# Altium schematic symbol library 1.3 - CD4000系列芯片.SCHLIB: 170 symbols (part 2 of 2)
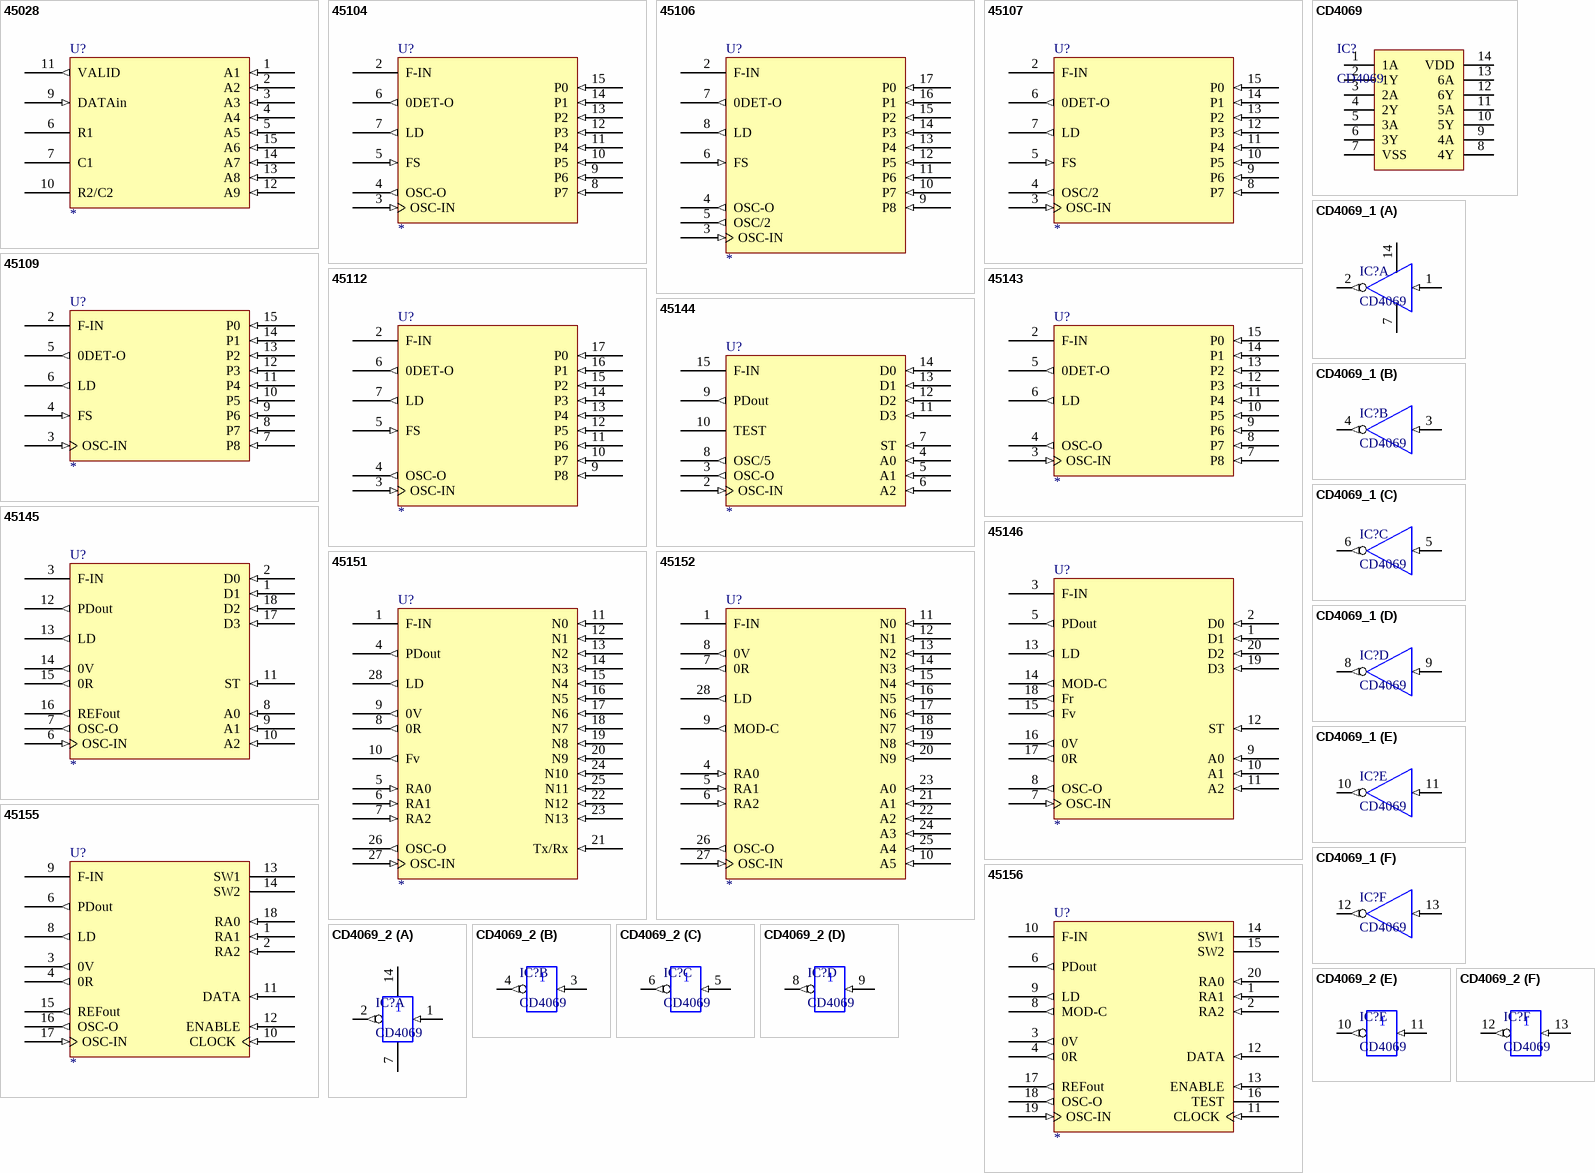
[diagram p8: symbols 45028 to CD4069_2]

## 45109
designator U?
footprint DIP-16
pins: 1 VCC (power) hidden to VCC, 2 F-IN, 3 OSC-IN (in), 4 FS (in), 5 0DET-O (out), 6 LD (out), 7 P8 (in), 8 P7 (in), 9 P6 (in), 10 P5 (in), 11 P4 (in), 12 P3 (in), 13 P2 (in), 14 P1 (in), 15 P0 (in), 16 GND (power) hidden to GND

## 45112
designator U?
footprint DIP-18
pins: 1 VCC (power) hidden to VCC, 2 F-IN, 3 OSC-IN (in), 4 OSC-O (out), 5 FS (in), 6 0DET-O (out), 7 LD (out), 9 P8 (in), 10 P7 (in), 11 P6 (in), 12 P5 (in), 13 P4 (in), 14 P3 (in), 15 P2 (in), 16 P1 (in), 17 P0 (in), 18 GND (power) hidden to GND

## 45143
designator U?
footprint DIP-16
pins: 1 VCC (power) hidden to VCC, 2 F-IN, 3 OSC-IN (in), 4 OSC-O (out), 5 0DET-O (out), 6 LD (out), 7 P8 (in), 8 P7 (in), 9 P6 (in), 10 P5 (in), 11 P4 (in), 12 P3 (in), 13 P2 (in), 14 P1 (in), 15 P0 (in), 16 GND (power) hidden to GND

## 45144
designator U?
footprint DIP-16
pins: 1 VCC (power) hidden to VCC, 2 OSC-IN (in), 3 OSC-O (out), 4 A0 (in), 5 A1 (in), 6 A2 (in), 7 ST (in), 8 OSC/5 (out), 9 PDout (out), 10 TEST, 11 D3 (in), 12 D2 (in), 13 D1 (in), 14 D0 (in), 15 F-IN, 16 GND (power) hidden to GND

## 45145
designator U?
footprint DIP-18
pins: 1 D1 (in), 2 D0 (in), 3 F-IN, 4 GND (power) hidden to GND, 5 VCC (power) hidden to VCC, 6 OSC-IN (in), 7 OSC-O (out), 8 A0 (in), 9 A1 (in), 10 A2 (in), 11 ST (in), 12 PDout (out), 13 LD (out), 14 0V (out), 15 0R (out), 16 REFout (out), 17 D3 (in), 18 D2 (in)

## 45146
designator U?
footprint DIP-20
pins: 1 D1 (in), 2 D0 (in), 3 F-IN, 4 GND (power) hidden to GND, 5 PDout (out), 6 VCC (power) hidden to VCC, 7 OSC-IN (in), 8 OSC-O (out), 9 A0 (in), 10 A1 (in), 11 A2 (in), 12 ST (in), 13 LD (out), 14 MOD-C (out), 15 Fv (out), 16 0V (out), 17 0R (out), 18 Fr (out), 19 D3 (in), 20 D2 (in)

## 45151
designator U?
footprint DIP-28
pins: 1 F-IN, 2 GND (power) hidden to GND, 3 VCC (power) hidden to VCC, 4 PDout (out), 5 RA0 (in), 6 RA1 (in), 7 RA2 (in), 8 0R (out), 9 0V (out), 10 Fv (out), 11 N0 (in), 12 N1 (in), 13 N2 (in), 14 N3 (in), 15 N4 (in), 16 N5 (in), 17 N6 (in), 18 N7 (in), 19 N8 (in), 20 N9 (in), 21 Tx/Rx (in), 22 N12 (in), 23 N13 (in), 24 N10 (in), 25 N11 (in), 26 OSC-O (out), 27 OSC-IN (in), 28 LD (out)

## 45152
designator U?
footprint DIP-28
pins: 1 F-IN, 2 GND (power) hidden to GND, 3 VCC (power) hidden to VCC, 4 RA0 (in), 5 RA1 (in), 6 RA2 (in), 7 0R (out), 8 0V (out), 9 MOD-C (out), 10 A5 (in), 11 N0 (in), 12 N1 (in), 13 N2 (in), 14 N3 (in), 15 N4 (in), 16 N5 (in), 17 N6 (in), 18 N7 (in), 19 N8 (in), 20 N9 (in), 21 A1 (in), 22 A2 (in), 23 A0 (in), 24 A3 (in), 25 A4 (in), 26 OSC-O (out), 27 OSC-IN (in), 28 LD (out)

## 45155
designator U?
footprint DIP-18
pins: 1 RA1 (in), 2 RA2 (in), 3 0V (out), 4 0R (out), 5 VCC (power) hidden to VCC, 6 PDout (out), 7 GND (power) hidden to GND, 8 LD (out), 9 F-IN, 10 CLOCK (in), 11 DATA (in), 12 ENABLE (in), 13 SW1 (oc), 14 SW2 (oc), 15 REFout (out), 16 OSC-O (out), 17 OSC-IN (in), 18 RA0 (in)

## 45156
designator U?
footprint DIP-20
pins: 1 RA1 (in), 2 RA2 (in), 3 0V (out), 4 0R (out), 5 VCC (power) hidden to VCC, 6 PDout (out), 7 GND (power) hidden to GND, 8 MOD-C (out), 9 LD (out), 10 F-IN, 11 CLOCK (in), 12 DATA (in), 13 ENABLE (in), 14 SW1 (oc), 15 SW2 (oc), 16 TEST, 17 REFout (out), 18 OSC-O (out), 19 OSC-IN (in), 20 RA0 (in)

## CD4069
designator IC?
6路反相器; 版权归属: 封装库来自淘宝卖家 ID：黄晶宝石; BOM名称: 6路反相器; 学习资源: https://shop463601444.taobao.com
footprint DIP14-300 (19*7.6*3.8(长宽高）)
footprint DIP14-300_MH (带底座  19*7.6*3.8(长宽高）)
footprint SOP14_L (8.7*6.2*1.8mm（长宽高）)
footprint SOP14_M (8.7*6.2*1.8mm（长宽高）)
footprint SOP14_N (8.7*6.2*1.8mm（长宽高）)
pins: 1 1A, 2 1Y, 3 2A, 4 2Y, 5 3A, 6 3Y, 7 VSS, 8 4Y, 9 4A, 10 5Y, 11 5A, 12 6Y, 13 6A, 14 VDD

## CD4069_1
designator IC?, comment CD4069
6路反相器(美标); 学习资源: 封装库来自淘宝卖家 ID：黄晶宝石; BOM名称: 6路反相器; 版权归属: https://shop463601444.taobao.com; 唯一出售店铺网址: https://shop463601444.taobao.com
footprint DIP14-300 (19*7.6*3.8(长宽高）)
footprint DIP14-300_MH (带底座  19*7.6*3.8(长宽高）)
footprint SOP14_L (8.7*6.2*1.8mm（长宽高）)
footprint SOP14_M (8.7*6.2*1.8mm（长宽高）)
footprint SOP14_N (8.7*6.2*1.8mm（长宽高）)
part A pins: 1 A (in), 2 Y (out), 7 VSS, 14 VDD
part B pins: 3 A (in), 4 Y (out)
part C pins: 5 A (in), 6 Y (out)
part D pins: 8 Y (out), 9 A (in)
part E pins: 10 Y (out), 11 A (in)
part F pins: 12 Y (out), 13 A (in)

## CD4069_2
designator IC?, comment CD4069
6路反相器(国标); 技术支持，联系售后: 封装库来自淘宝卖家 ID：黄晶宝石; BOM名称: 6路反相器; 唯一出售店铺网址: https://shop463601444.taobao.com
footprint DIP14-300 (19*7.6*3.8(长宽高）)
footprint DIP14-300_MH (带底座  19*7.6*3.8(长宽高）)
footprint SOP14_L (8.7*6.2*1.8mm（长宽高）)
footprint SOP14_M (8.7*6.2*1.8mm（长宽高）)
footprint SOP14_N (8.7*6.2*1.8mm（长宽高）)
part A pins: 1 A (in), 2 Y (out), 7 VSS, 14 VDD
part B pins: 3 A (in), 4 Y (out)
part C pins: 5 A (in), 6 Y (out)
part D pins: 8 Y (out), 9 A (in)
part E pins: 10 Y (out), 11 A (in)
part F pins: 12 Y (out), 13 A (in)